# Altium footprint library sm_fuse.PcbLib: 5 footprints
Each footprint in its own frame and in the unit in brackets; x right, y up, seen from the top. Pads: shape width x height; smd on the part's side, far side on the other; paste and mask are expansions set on the pad; w line width, h text height; cw(c..) or ccw(c..) is an arc to the next point about the centre after c.
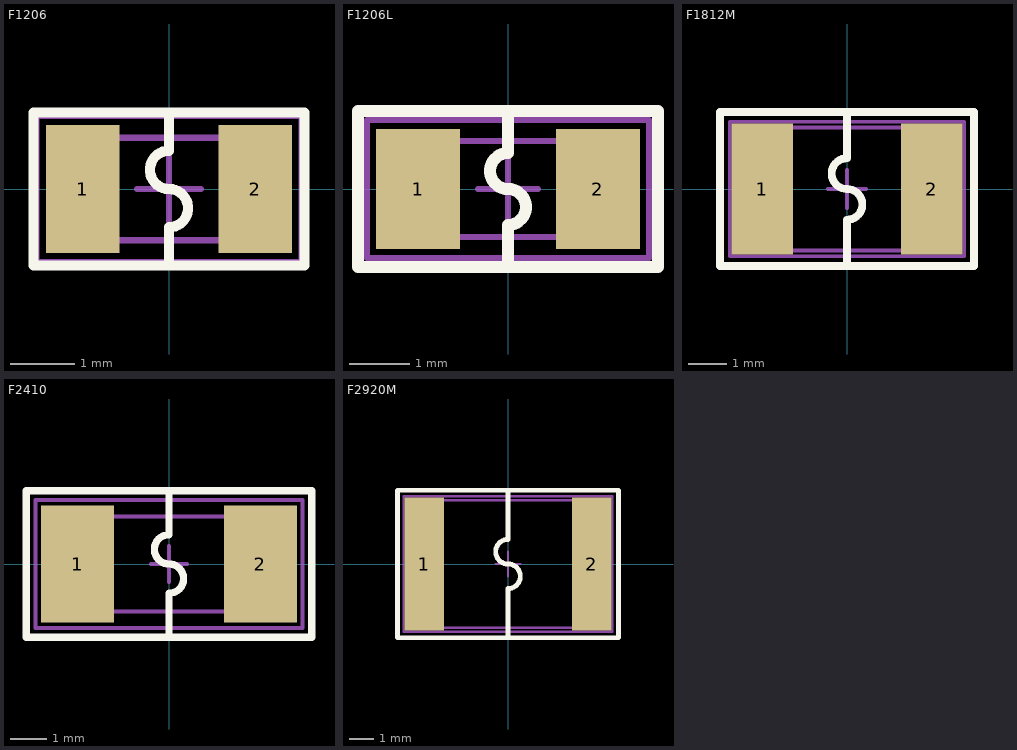
[diagram p0: the footprints below, top view; thin cyan lines are the x and y axes]

## F1206 [mm] "Chip Fuse"
height 0.6
pads (2):
  rect 1.15x2 smd: 1(-1.35,0) 2(1.35,0)
Top Overlay:
  lines w0.16: 0,-1.2 0,-0.6 ccw(c0,-0.3) 0,0 cw(c0,0.3) 0,0.6 0,1.2 ; -2.125,-1.2 -2.125,1.2 2.125,1.2 2.125,-1.2 -2.125,-1.2
Mechanical 13:
  lines w0.1: -0.5,0 0.5,0 ; 0,-0.5 0,0.5 ; -1.6,-0.8 1.6,-0.8 1.6,0.8 -1.6,0.8 -1.6,-0.8
Mechanical 15:
  lines w0.1: -2.075,-1.15 2.075,-1.15 2.075,1.15 -2.075,1.15 -2.075,-1.15
  text ".Designator" at -1.35,-0.15 h0.5
3D body: height 0.6, standoff 0, extent 1,-0.8 1.6,0.8
3D body: height 0.6, standoff 0, extent -1,-0.8 1,0.8
3D body: height 0.6, standoff 0, extent -1.6,-0.8 -1,0.8

## F1206L [mm] "Chip Fuse 1206 - Low Density"
height 0.6
pads (2):
  rect 1.4x2 smd: 1(-1.5,0) 2(1.5,0)
Top Overlay:
  lines w0.2: 0,-1.3 0,-0.6 ccw(c0,-0.3) 0,0 cw(c0,0.3) 0,0.6 0,1.3 ; -2.5,-1.3 2.5,-1.3 2.5,1.3 -2.5,1.3 -2.5,-1.3
Mechanical 13:
  lines w0.1: -0.5,0 0.5,0 ; 0,-0.5 0,0.5 ; -1.6,-0.8 -1.6,0.8 1.6,0.8 1.6,-0.8 -1.6,-0.8
Mechanical 15:
  lines w0.1: -2.35,-1.15 -2.35,1.15 2.35,1.15 2.35,-1.15 -2.35,-1.15
  text ".Designator" at -1.35,-0.15 h0.5
3D body: height 0.6, standoff 0, extent -1.6,-0.8 -1,0.8
3D body: height 0.6, standoff 0, extent -1,-0.8 1,0.8
3D body: height 0.6, standoff 0, extent 1,-0.8 1.6,0.8

## F1812M [mm] "Chip Resistor, 2-Leads, Body 4.5x3.2mm, IPC Medium Density"
height 0.9
pads (2):
  rect 1.6x3.4 smd: 1(-2.2,0) 2(2.2,0)
Top Overlay:
  lines w0.2: 0,-2 0,-0.8 ccw(c0,-0.4) 0,0 cw(c0,0.4) 0,0.8 0,2 ; -3.3,-2 -3.3,2 3.3,2 3.3,-2 -3.3,-2
Mechanical 13:
  lines w0.1: -0.5,0 0.5,0 ; 0,-0.5 0,0.5 ; -2.3,-1.6 -2.3,1.6 2.3,1.6 2.3,-1.6 -2.3,-1.6
Mechanical 15:
  lines w0.1: -3.05,-1.75 -3.05,1.75 3.05,1.75 3.05,-1.75 -3.05,-1.75
  text ".Designator" at -1.1,-0.225 h0.5
3D body: height 0.9, standoff 0, extent 1.7,-1.6 2.3,1.6
3D body: height 0.9, standoff 0, extent -2.3,-1.6 -1.7,1.6
3D body: height 0.9, standoff 0, extent -1.7,-1.6 1.7,1.6

## F2410 [mm] "SMD Fuse"
height 2.54
pads (2):
  rect 2x3.2 smd: 1(-2.5,0) 2(2.5,0)
Top Overlay:
  lines w0.2: 0,-2 0,-0.8 ccw(c0,-0.4) 0,0 cw(c0,0.4) 0,0.8 0,2 ; -3.9,-2 -3.9,2 3.9,2 3.9,-2 -3.9,-2
Mechanical 13:
  lines w0.1: -0.5,0 0.5,0 ; 0,-0.5 0,0.5 ; -3.1,-1.3 -3.1,1.3 3.1,1.3 3.1,-1.3 -3.1,-1.3
Mechanical 15:
  lines w0.1: -3.65,-1.75 -3.65,1.75 3.65,1.75 3.65,-1.75 -3.65,-1.75
  text ".Designator" at -1.1,-0.225 h0.5
3D body: height 2.56, standoff 0.02, extent -3.1,-1.27 3.1,1.27

## F2920M [mm] "Chip Resistor, 2-Leads, Body 7.2x5.1mm, IPC Medium Density"
height 0.9
pads (2):
  rect 1.6x5.4 smd: 1(-3.4,0) 2(3.4,0)
Top Overlay:
  lines w0.2: 0,-3 0,-1 ccw(c0,-0.5) 0,0 cw(c0,0.5) 0,1 0,3 ; -4.5,-3 4.5,-3 4.5,3 -4.5,3 -4.5,-3
Mechanical 13:
  lines w0.1: -0.5,0 0.5,0 ; 0,-0.5 0,0.5 ; -3.7,-2.6 3.7,-2.6 3.7,2.6 -3.7,2.6 -3.7,-2.6
Mechanical 15:
  lines w0.1: -4.25,-2.75 4.25,-2.75 4.25,2.75 -4.25,2.75 -4.25,-2.75
  text ".Designator" at -1.1,-0.225 h0.5
3D body: height 0.9, standoff 0, extent -3,-2.6 3,2.6
3D body: height 0.9, standoff 0, extent -3.7,-2.6 -3,2.6
3D body: height 0.9, standoff 0, extent 3,-2.6 3.7,2.6